# EAGLE library part USB_MR5-001 (library Domino)
Micro USB Type B Receptacle, 4 Shield Pins SMT
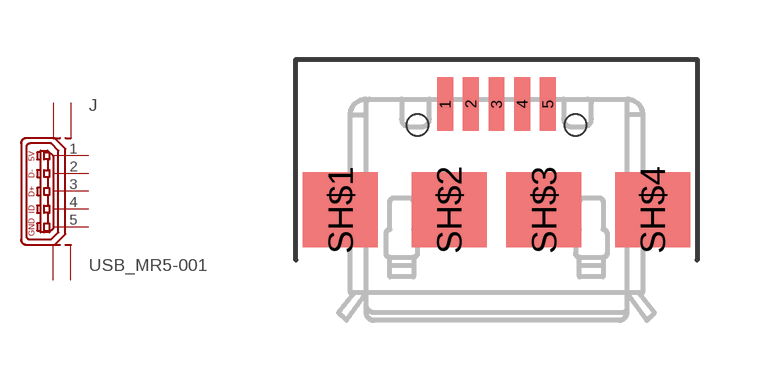
[diagram p42: symbol with the pads of USB-MR5-001; footprint USB-MR5-001]

Designator prefix J

## USB_MR5-001  [USB-MR5-001]
1  1  pas
2  2  pas
3  3  pas
4  4  pas
5  5  pas
SH$1  M0  pas
SH$2  M1  pas
SH$3  M2  pas
SH$4  M3  pas

## Footprint USB-MR5-001 (pad centres in mm)
MicroUSB B Type Receptacle SMT
smd 0.4 x 1.35: 1 -1.3,2.675; 2 -0.65,2.675; 3 0,2.675; 4 0.65,2.675; 5 1.3,2.675
smd 1.9 x 1.9: SH$1 -3.95,0; SH$2 -1.2,0; SH$3 1.2,0; SH$4 3.95,0
hole 0.55 at -2,2.15
hole 0.55 at 2,2.15